# Altium schematic symbol library symbols.SchLib: 10 symbols
Pins are listed as number, name and electrical type; pins without a type are passive.

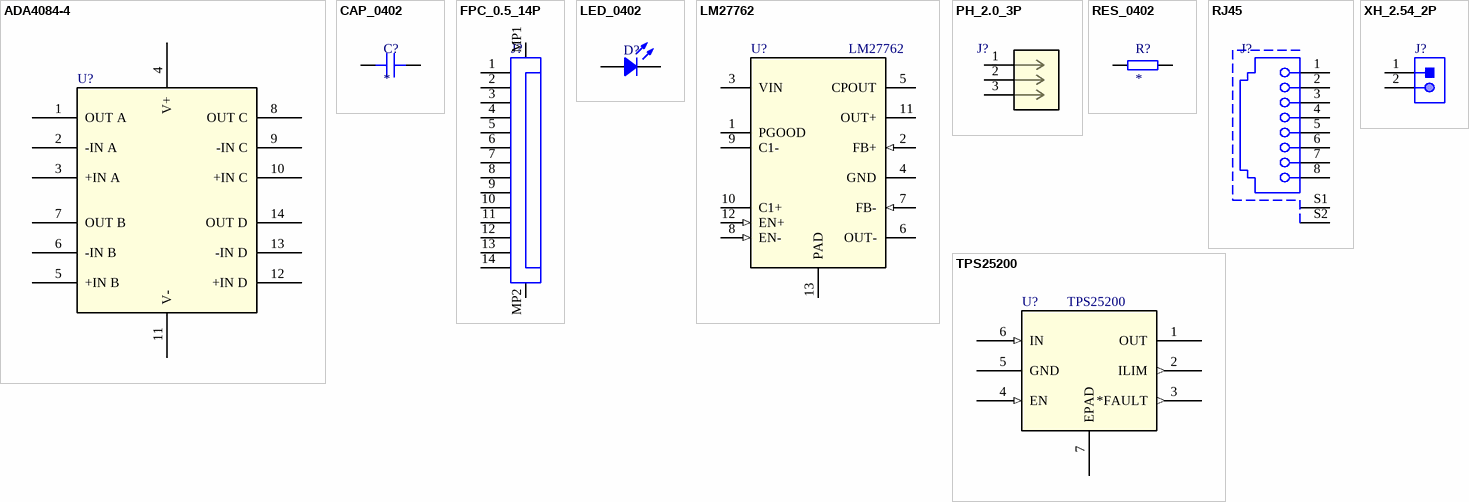
[diagram p0: symbols ADA4084-4 to XH_2.54_2P]

## ADA4084-4
designator U?
30 V, Low Noise, Rail-to-Rail Input/Output, / Low Power Operational Amplifiers
footprint ADA4084-4
pins: 1 OUT A, 2 -IN A, 3 +IN A, 4 V+, 5 +IN B, 6 -IN B, 7 OUT B, 8 OUT C, 9 -IN C, 10 +IN C, 11 V-, 12 +IN D, 13 -IN D, 14 OUT D

## CAP_0402
designator C?
Capacitor SMD 0402; Voltage: 50V; Capacitance: *
footprint CAP_0402 (Chip Capacitor, 2-Leads, Body 1.02x0.51mm, IPC Medium Density)
pins: 1, 2

## FPC_0.5_14P
designator J?
FPC, Horizontal, pitch 0.5 mm, 14 pins
footprint FPC_0.5_14P
pins: 1, 2, 3, 4, 5, 6, 7, 8, 9, 10, 11, 12, 13, 14, MP1, MP2

## LED_0402
designator D?
LED SMD 0402
footprint LED_0402 (Chip Diode, 2-Leads, Body 1.00x0.50mm, IPC Medium Density)
pins: A, K

## LM27762
designator U?
Low-Noise Positive and Negative Output Integrated Charge Pump Plus LDO; Mfr_Name: Texas Instruments; Manufacturer_Part_Number: LM27762DSSR; Type: DEV; RefDes: RefDes; Copyright: Copyright (C) 2023 Ultra Librarian. All rights reserved.; Digi-Key_Part_Number_1: 296-47331-1-ND; Digi-Key_Part_Number_2: 296-47331-2-ND; Digi-Key_Part_Number_3: 296-47331-6-ND; Digi-Key_Part_Number_4: 2156-LM27762DSSR-ND
footprint LM27762
pins: 1 PGOOD (oc), 2 FB+ (in), 3 VIN (power), 4 GND (power), 5 CPOUT (power), 6 OUT- (power), 7 FB- (in), 8 EN- (in), 9 C1-, 10 C1+, 11 OUT+ (power), 12 EN+ (in), 13 PAD (power)

## PH_2.0_3P
designator J?
PH, pitch 2.0 mm, 3 pisition
footprint PH_2.0_3P
pins: 1, 2, 3

## RES_0402
designator R?
Resistor SMD 0402; Resistance: *
footprint RES_0402 (Chip Resistor, 2-Leads, Body 1.0x0.5mm, IPC Medium Density)
footprint RES_0402_RF (Chip Resistor, 2-Leads, Body 1.0x0.5mm, IPC High Density)
pins: 1, 2

## RJ45
designator J?
RJ45
footprint RJ45
pins: 1, 2, 3, 4, 5, 6, 7, 8, S1, S2

## TPS25200
designator U?
5-V eFuse With Precision Adjustable Current Limit and Overvoltage Clamp; Mfr_Name: Texas Instruments; Manufacturer_Part_Number: TPS25200DRVR; Copyright: Copyright (C) 2023 Ultra Librarian. All rights reserved.; RefDes: RefDes; Type: DEV
footprint TPS25200
pins: 1 OUT (power), 2 ILIM (out), 3 *FAULT (out), 4 EN (in), 5 GND (power), 6 IN (in), 7 EPAD

## XH_2.54_2P
designator J?
XH, pitch 2.54 mm, 2 pisition
footprint XH_2.54_2P
pins: 1, 2